# EAGLE library part 7499211123 (library Wurth Electronics Midcom Inc V1-0)
Package Style: HPLE RJ45 10/100 PoE Mounting: THT LED: Y-G Shield: 293-0544 Header: 183-0211 Windings Primary: Aux: Secondary: Best pinouts for production vary per application. Please contact Wurth Electronics Midcom, Inc. for assistance with your custom design. Datasheet: 7499211123 <http://katalog.we-online.de/kataloge/eisos/media/pdf/7499211123.pdf> Website: Wurth Electronics Midcom <http://www.we-online.com/midcom> Contact us Wurth Electronics Midcom, Inc. 121 Airport Dr. Watertown, SD 57201 Phone: (605) 886-4385 Fax: (605) 886-4486 E-Mail: midcom@we-online.com
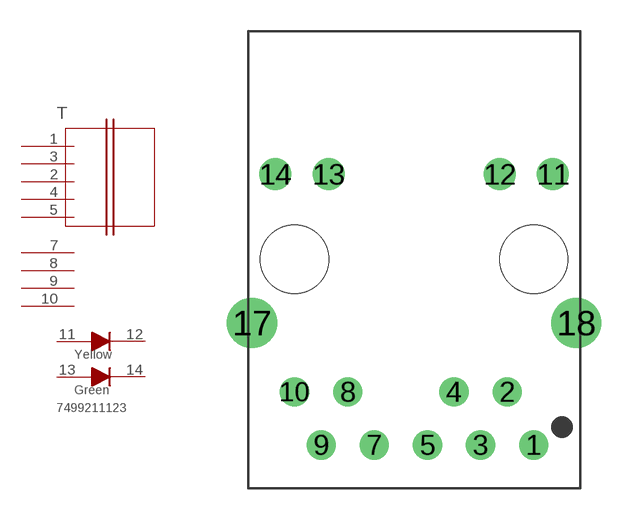
[diagram p183: symbol with the pads of 01LAN_RJ45_10/00_Y-G_POE; footprint 01LAN_RJ45_10/00_Y-G_POE]

Designator prefix T

## 7499211123  [01LAN_RJ45_10/00_Y-G_POE]
1  1  pas
2  3  pas
3  2  pas
4  4  pas
5  5  pas
7  6  pas
8  7  pas
9  8  pas
10  9  pas
11  10  pas
12  11  pas
13  12  pas
14  13  pas

## Footprint 01LAN_RJ45_10/00_Y-G_POE (pad centres in mm)
Package Style: RJ45 10/100 PoE Mounting: THT LED: Y-G
drill 0.889 round: 1 5.715,-8.865; 2 4.445,-6.325; 3 3.175,-8.865; 4 1.905,-6.325; 5 0.635,-8.865; 7 -1.905,-8.865; 8 -3.175,-6.325; 9 -4.445,-8.865; 10 -5.715,-6.325
drill 1.016 round: 11 6.629,4.089; 12 4.089,4.089; 13 -4.089,4.089; 14 -6.629,4.089
drill 1.6 round: 17 -7.747,-3.023; 18 7.747,-3.023
hole 3.251 at -5.715,0.025
hole 3.251 at 5.715,0.025